# Altium footprint library Connectors.PcbLib: 11 footprints
Each footprint in its own frame and in the unit in brackets; x right, y up, seen from the top. Pads: shape width x height; smd on the part's side, far side on the other; paste and mask are expansions set on the pad; w line width, h text height; cw(c..) or ccw(c..) is an arc to the next point about the centre after c.
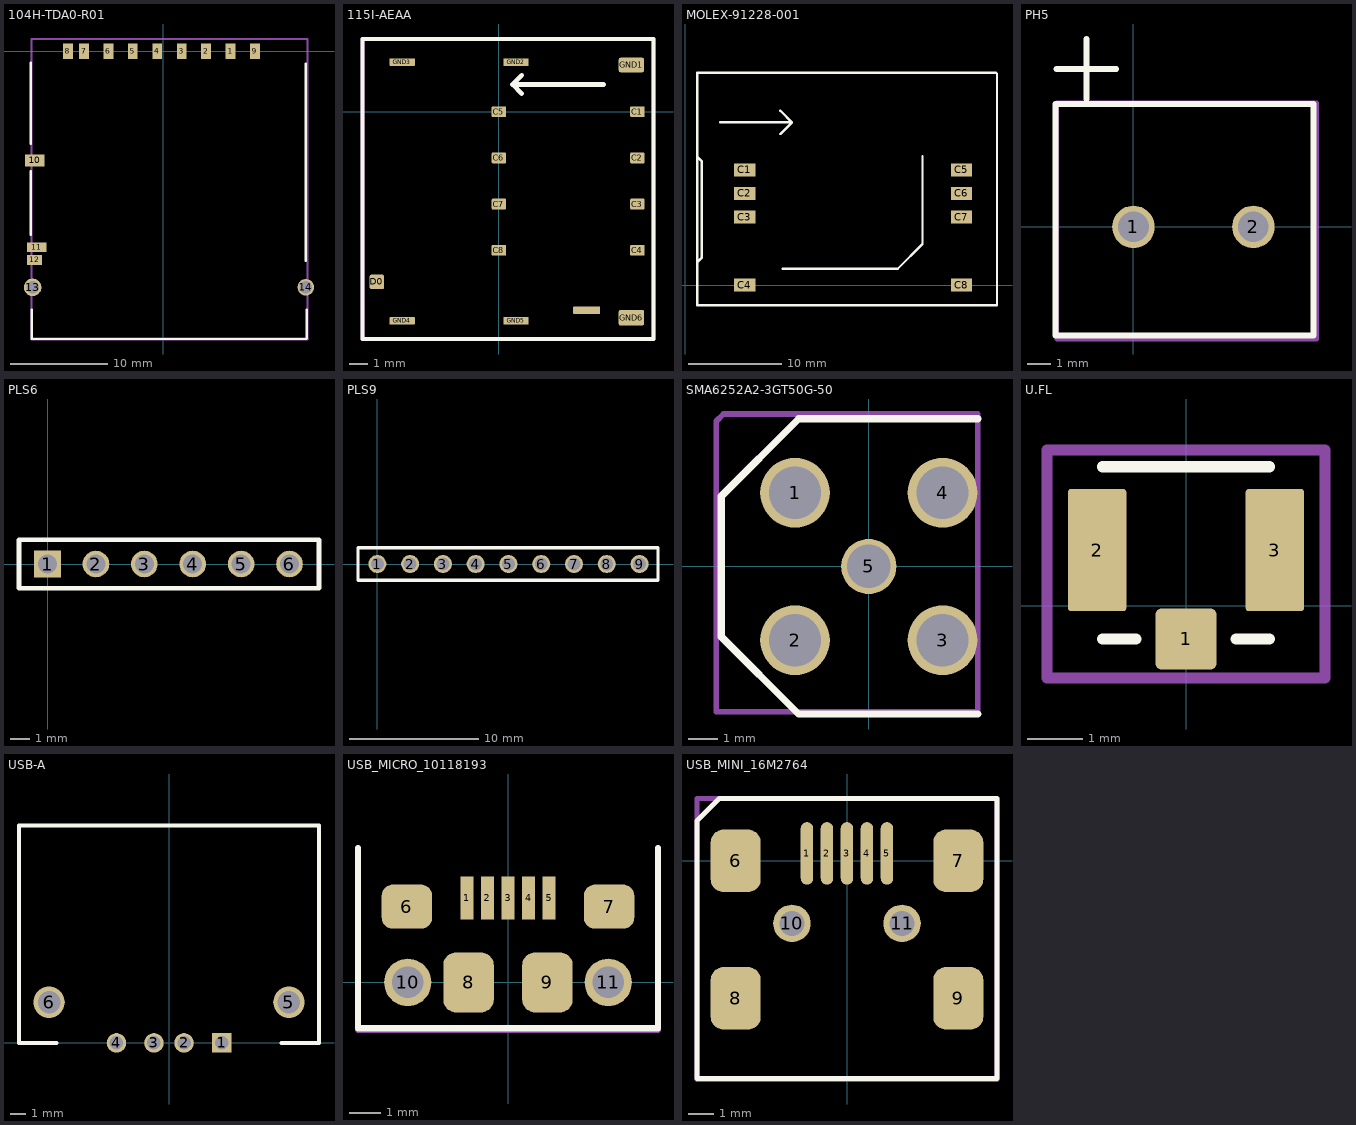
[diagram p0: the footprints below, top view; thin cyan lines are the x and y axes]

## 104H-TDA0-R01 [mm] "SD card connector"
pads (14):
  rect 1x1.6 smd: 1(6.88,0) 2(4.38,0) 3(1.88,0) 4(-0.63,0) 5(-3.13,0) 6(-5.63,0) 7(-8.13,0) 8(-9.78,0) 9(9.38,0)
  rect 2x1.2 smd: 10(-13.2,-11.2)
  rect 2x1 smd: 11(-13,-20.1)
  rect 1.55x1 smd: 12(-13.2,-21.4)
  round 1.8 hole 1.3: 13(-13.4,-24.2)
  round 1.7 hole 1.3: 14(14.6,-24.2)
Top Overlay:
  lines w0.254: -13.6,-18.8 -13.6,-12.3 ; -13.6,-9.5 -13.6,-1.2 ; -13.5,-26.5 -13.5,-29.5 14.6,-29.5 14.7,-29.4 14.7,-26.5 ; 14.6,-21.5 14.6,-1.3
Mechanical 29:
  lines w0.2: -13.5,-29.5 -13.5,1.25 14.75,1.25 14.75,-29.5
  lines w0.3: -13.5,-29.5 14.75,-29.5
  text ".Comment" at -3.5,-13.5 h0.8
3D body "104H-TDA0-R_C_1.stp": height 2.7, standoff -0.7, extent -13.478,-29.5 14.675,0.305

## 115I-AEAA [mm] "SIM card holder"
pads (16):
  rrect25% 0.8x0.6 smd: C1(7.62,0) C2(7.62,-2.54) C3(7.62,-5.08) C4(7.62,-7.62) C5(0,0) C6(0,-2.54) C7(0,-5.08) C8(0,-7.62)
  rrect25% 0.8x0.8 smd: D0(-6.71,-9.36)
  rrect25% 1.5x0.4 smd: D1(4.82,-10.92)
  rrect25% 1.4x0.8 smd: GND1(7.29,2.57)
  rrect25% 1.4x0.42 smd: GND2(0.94,2.73) GND3(-5.32,2.73) GND4(-5.32,-11.5) GND5(0.94,-11.5)
  rrect25% 1.4x0.87 smd: GND6(7.29,-11.33)
Top Overlay:
  lines w0.2: -7.5,-12.5 8.5,-12.5 8.5,4 -7.5,4 -7.5,-12.5
  lines w0.254: 1.25,1 0.75,1.5 ; 1.25,2 0.75,1.5 ; 5.75,1.5 0.75,1.5 ; 0.75,1.5 0.75,1.5
Mechanical 29:
  lines w0.2: -7.5,-12.5 -7.5,4 8.5,4 8.5,-12.5 -7.5,-12.5
  text ".Comment" at -3,-7.75 h0.8
3D body "MICRO_SIM_ASM0001_ASM_28.STEP": height 1.2, standoff -0.2, extent -7.32,-11.642 7.9,2.842

## MOLEX-91228-001 [mm]
pads (8):
  rect 2.3x1.4 smd: C1(6.4,12.4) C2(6.4,9.86) C3(6.4,7.32) C4(6.4,0) C5(29.713,12.4) C6(29.713,9.86) C7(29.713,7.32) C8(29.713,0)
Top Overlay:
  lines w0.254: 1.284,13.829 1.778,13.335 1.778,2.921 1.348,2.491 ; 3.75,17.5 11.5,17.5 ; 10.25,16.25 11.5,17.5 ; 10.25,18.75 11.5,17.5 ; 10.5,1.778 22.86,1.778 25.527,4.445 25.527,13.843 ; 1.299,-2.159 33.528,-2.159 33.528,22.733 33.42,22.841 1.299,22.841 1.299,-2.159
3D body "912283001.stp": height 3.1, standoff 0, extent 1.299,-2.159 33.499,22.841

## PH5 [mm] "Phoenix Contact 5.08mm"
pads (2):
  round 1.8 hole 1.3: 1(0,0) 2(5.08,0)
Top Overlay:
  lines w0.254: -3.27,6.69 -0.73,6.69 ; -2,5.42 -2,7.96 ; -3.3,-4.6 -3.3,5.2 7.62,5.2 7.62,-4.6 -3.3,-4.6
Mechanical 29:
  lines w0.2: -3.25,-4.75 -3.25,5.25 7.75,5.25 7.75,-4.75 -3.25,-4.75
  text ".Comment" at -2.5,1.75 h0.8
3D body "13989.stp": height 14.2, standoff -3.5, extent -3.251,-4.6 7.65,5.2

## PLS6 [mm] "2.54 mm Jumper Header"
pads (6):
  rect 1.4x1.4 hole 1: 1(0,0)
  round 1.4 hole 1: 2(2.54,0) 3(5.08,0) 4(7.62,0) 5(10.16,0) 6(12.7,0)
Top Overlay:
  lines w0.254: -1.5,-1.27 -1.5,1.27 14.25,1.27 14.25,-1.27 -1.5,-1.27

## PLS9 [mm] "2.54 mm Jumper Header"
pads (9):
  round 1.4 hole 1: 1(0,0) 2(2.54,0) 3(5.08,0) 4(7.62,0) 5(10.16,0) 6(12.7,0) 7(15.24,0) 8(17.78,0) 9(20.32,0)
Top Overlay:
  lines w0.254: -1.5,-1.27 21.75,-1.27 21.75,1.27 -1.5,1.27 -1.5,-1.27

## SMA6252A2-3GT50G-50 [mm] "SMA6252A2-3GT50G-50"
pads (5):
  round 2.4 hole 1.8: 1(-2.54,2.54) 2(-2.54,-2.54) 3(2.54,-2.54) 4(2.54,2.54)
  round 1.9 hole 1.5: 5(0,0)
Top Overlay:
  lines w0.254: 3.75,-5.08 -2.42,-5.08 -5.08,-2.42 -5.08,2.42 -2.42,5.08 3.75,5.08
Mechanical 29:
  lines w0.2: -5.25,-5 3.75,-5 3.75,5.25 -5,5.25 -5.25,5 -5.25,-5
  text ".Comment" at -5,0.25 h0.8
3D body "GSMANTENNA.STEP": height 32.95, standoff -4.24, extent -3.5,-6.254 34.4,78.307

## U.FL [mm] "U.FL connector"
pads (3):
  rrect20% 1.1x1.1 smd: 1(0,-0.6)
  rrect10% 1.05x2.2 smd: 2(-1.6,1) 3(1.6,1)
Top Overlay:
  lines w0.2: -1.5,-0.6 -0.9,-0.6 ; -1.5,2.5 1.5,2.5 ; 0.9,-0.6 1.5,-0.6
Mechanical 29:
  lines w0.2: -2.5,-1.3 2.5,-1.3 2.5,2.8 -2.5,2.8 -2.5,-1.3
  text ".Comment" at -3,0.6 h0.8
3D body "User Library-U_FL-R-SMT-1.step": height 1.25, standoff -0.01, extent -1.5,-0.55 1.5,2.55

## USB-A [mm] "FEMALE"
pads (6):
  rect 1.3x1.3 hole 0.9: 1(3.5,0)
  round 1.3 hole 0.9: 2(1,0) 3(-1,0) 4(-3.5,0)
  round 2.1 hole 1.5: 5(8,2.71) 6(-8,2.71)
Top Overlay:
  lines w0.254: -7.5,0 -10,0 -10,14.5 10,14.5 10,0 7.5,0
3D body "482580002.stp": height 6.57, standoff -0.33, extent -8.55,-0.6 8.55,13.4

## USB_MICRO_10118193 [mm]
pads (11):
  rect 0.4x1.35 smd mask+0.125: 1(-1.3,2.675) 2(-0.65,2.675) 3(0,2.675) 4(0.65,2.675) 5(1.3,2.675)
  rrect50% 1.6x1.4 smd: 6(-3.2,2.4) 7(3.2,2.4)
  rrect50% 1.6x1.9 smd: 8(-1.25,0) 9(1.25,0)
  round 1.5 hole 1: 10(-3.175,0) 11(3.175,0)
Top Overlay:
  lines w0.2: -4.75,4.25 -4.75,-1.45 4.75,-1.45 4.75,4.25
Mechanical 29:
  lines w0.2: -4.75,4.25 -4.75,-1.5 4.75,-1.5 4.75,4.25
  text ".Comment" at -3.25,1.75 h0.8

## USB_MINI_16M2764 [mm] "USB-06_1800"
pads (11):
  oval 0.5x2.5 smd: 1(-1.6,0.3) 2(-0.8,0.3) 3(0,0.3) 4(0.8,0.3) 5(1.6,0.3)
  rrect50% 2x2.5 smd: 6(-4.45,0) 7(4.45,0) 8(-4.45,-5.5) 9(4.45,-5.5)
  round 1.5 hole 1: 10(-2.2,-2.5) 11(2.2,-2.5)
Top Overlay:
  lines w0.2: -6,-8.7 6,-8.7 6,2.5 -5.1,2.5 -6,1.6 -6,-8.7
Mechanical 29:
  lines w0.2: -6,-8.75 -6,2.5 6,2.5 6,-8.75 -6,-8.75
  text ".Comment" at -3.5,-4.75 h0.8
3D body "c-1734327-1-d-3d.stp": height 4.14, standoff -0.95, extent -4.95,-8.4 4.95,0.8